# Altium footprint library in3ator_components.PcbLib: 40 footprints (part 1 of 3)
Each footprint in its own frame and in the unit in brackets; x right, y up, seen from the top. Pads: shape width x height; smd on the part's side, far side on the other; paste and mask are expansions set on the pad; w line width, h text height; cw(c..) or ccw(c..) is an arc to the next point about the centre after c.
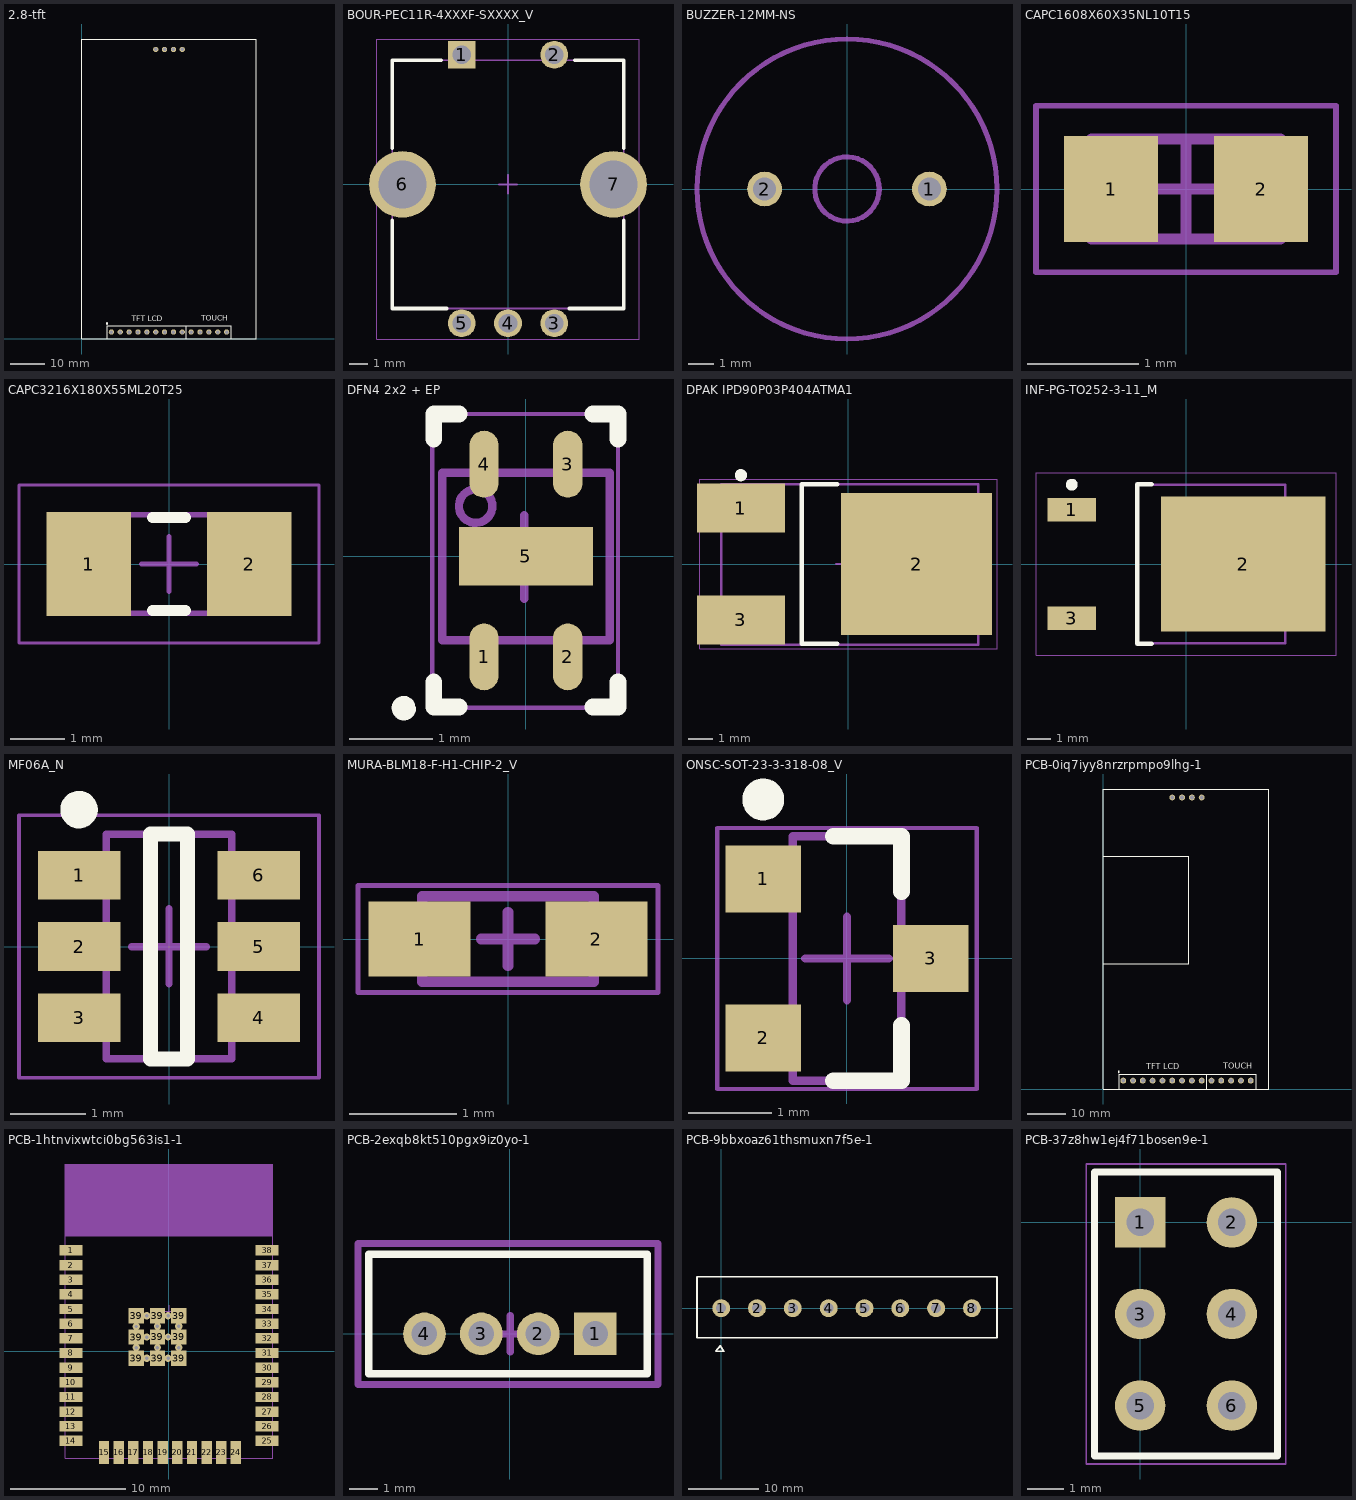
[diagram p0: the footprints below, top view; thin cyan lines are the x and y axes]

## 2.8-tft [mm]
pads (18):
  round 1.524 hole 1: 1(8.435,1.97) 2(10.975,1.97) 3(13.515,1.97) 4(16.055,1.97) 5(18.595,1.97) 6(21.135,1.97) 7(23.675,1.97) 8(26.215,1.97) 9(28.755,1.97) 10(21.135,82.97) 11(23.675,82.97) 12(26.215,82.97) 13(28.755,82.97) 14(31.295,1.97) 15(33.835,1.97) 16(36.375,1.97) 17(38.915,1.97) 18(41.455,1.97)
Top Overlay:
  circle w0.254: c7.165,4.445 r0.18
  lines w0.254: 3.175,0 38.534,0 ; 7.292,0 7.292,3.81 29.898,3.81 ; 41.201,0 42.725,0 42.725,3.81 37.772,3.81 30.152,3.81 29.898,3.81 ; 41.312,0 29.898,0 29.898,3.81 ; -0.055,-0.03 49.945,-0.03 49.945,85.97 -0.055,85.97 -0.055,-0.03
  text "TFT LCD" at 14.277,5.08 h1.52
  text "TOUCH" at 34.216,5.207 h1.52
3D body "TFT LCD 240x320 Assembly.step": height 8.53, standoff -5.78, extent -0.108,0.085 49.892,86.085

## BOUR-PEC11R-4XXXF-SXXXX_V [mm]
pads (7):
  rect 1.5x1.5 hole 1: 1(-2.5,7)
  round 1.5 hole 1: 2(2.5,7) 3(2.5,-7.5) 4(0,-7.5) 5(-2.5,-7.5)
  round 3.6 hole 2.6: 6(-5.7,0) 7(5.7,0)
Top Overlay:
  lines w0.2: -6.25,-1.95 -6.25,-6.7 -3.326,-6.7 ; -6.25,1.95 -6.25,6.7 -3.61,6.7 ; 3.326,-6.7 6.25,-6.7 6.25,-1.95 ; 3.61,6.7 6.25,6.7 6.25,1.95
Mechanical 13:
  lines w0.1: -6.25,-6.7 -6.25,6.7 6.25,6.7 6.25,-6.7 -6.25,-6.7
Mechanical 15:
  lines w0.05: -7.1,-8.35 -7.1,7.85 7.1,7.85 7.1,-8.35 -7.1,-8.35
  lines w0.1: -0.5,0 0.5,0 ; 0,-0.5 0,0.5
3D body "pec11r-4x15f-sxxxx.stp": height 21.61, standoff -3.59, extent -7,-7.7 7,7.2

## BUZZER-12MM-NS [mil]
pads (2):
  round 54 hole 36: 1(128,0) 2(-127.95,0)
Mechanical 16:
  circle w8: c0,0 r233
  circle w8: c0,0 r50
  text "+" at 105,45 h108.5
3D body: height 334.65, standoff 0, extent -232.98,-232.98 232.98,232.98

## CAPC1608X60X35NL10T15 [mm]
pads (2):
  rect 0.85x0.95 smd: 1(-0.675,0) 2(0.675,0)
Mechanical 13:
  lines w0.1: -0.85,-0.45 -0.85,0.45 0.85,0.45 0.85,-0.45 -0.85,-0.45
Mechanical 15:
  lines w0.05: -1.35,-0.75 -1.35,0.75 1.35,0.75 1.35,-0.75 -1.35,-0.75
  lines w0.1: -0.45,0 0.45,0 ; 0,-0.45 0,0.45
3D body: height 0.6, standoff 0, extent -0.5,-0.45 0.5,0.45
3D body: height 0.6, standoff 0, extent -0.85,-0.45 -0.5,0.45
3D body: height 0.6, standoff 0, extent 0.5,-0.45 0.85,0.45

## CAPC3216X180X55ML20T25 [mm]
pads (2):
  rect 1.55x1.9 smd: 1(-1.475,0) 2(1.475,0)
Top Overlay:
  lines w0.2: -0.3,-0.85 0.3,-0.85 ; -0.3,0.85 0.3,0.85
Mechanical 13:
  lines w0.1: -1.7,-0.9 1.7,-0.9 1.7,0.9 -1.7,0.9 -1.7,-0.9
Mechanical 15:
  lines w0.05: -2.75,-1.45 2.75,-1.45 2.75,1.45 -2.75,1.45 -2.75,-1.45
  lines w0.1: -0.5,0 0.5,0 ; 0,-0.5 0,0.5
3D body: height 1.8, standoff 0, extent 1.15,-0.9 1.7,0.9
3D body: height 1.8, standoff 0, extent -1.7,-0.9 -1.15,0.9
3D body: height 1.8, standoff 0, extent -1.15,-0.9 1.15,0.9

## DFN4 2x2 + EP [mm]
pads (5):
  oval 0.35x0.8 smd: 1(-0.5,-1.2) 2(0.5,-1.2) 3(0.5,1.1) 4(-0.5,1.1)
  rect 1.6x0.7 smd paste-0.15: 5(0,0)
Top Overlay:
  lines w0.15: -1.397,-1.778 ccw(c-1.458,-1.813) -1.388,-1.821
  lines w0.2: -1.1,-1.5 -1.1,-1.8 -0.8,-1.8 ; -1.1,1.4 -1.1,1.7 -0.8,1.7 ; 0.8,-1.8 1.1,-1.8 1.1,-1.5 ; 0.8,1.7 1.1,1.7 1.1,1.4
Mechanical 13:
  circle w0.1: c-0.6,0.6 r0.2
  lines w0.1: -1,-1 1,-1 1,1 -1,1 -1,-1
Mechanical 15:
  lines w0.05: -1.119,-1.808 1.1,-1.808 1.1,1.7 -1.119,1.7 -1.119,-1.808
  lines w0.1: -0.519,-0.008 0.481,-0.008 ; -0.019,-0.508 -0.019,0.492
3D body: height 1, standoff 0, extent -1.1,-1.8 1.1,1.7

## DPAK IPD90P03P404ATMA1 [mm]
pads (3):
  rect 3.6x2 smd: 1(-4.4,2.29) 3(-4.4,-2.29)
  rect 6.2x5.8 smd: 2(2.8,0)
Top Overlay:
  circle w0.25: c-4.4,3.64 r0.125
  lines w0.2: -0.453,-3.27 -1.905,-3.27 -1.905,3.27 -0.453,3.27
Mechanical 13:
  lines w0.1: -5.207,-3.302 5.334,-3.302 5.334,3.27 -5.207,3.27 -5.207,-3.302
Mechanical 15:
  lines w0.05: -6.096,-3.465 6.096,-3.465 6.096,3.465 -6.096,3.465 -6.096,-3.465
  lines w0.1: -0.5,0 0.5,0 ; 0,-0.5 0,0.5
3D body "User Library-DPAK-1.step": height 2.29, standoff -0.13, extent -4.572,-3.27 5.366,3.27

## INF-PG-TO252-3-11_M [mm]
pads (3):
  rect 2.05x1 smd: 1(-4.8,2.28) 3(-4.8,-2.28)
  rect 6.9x5.65 smd: 2(2.4,0)
Top Overlay:
  circle w0.25: c-4.8,3.33 r0.125
  lines w0.2: -1.45,-3.35 -2.05,-3.35 -2.05,3.35 -1.45,3.35
Mechanical 13:
  lines w0.1: -2.05,-3.325 4.17,-3.325 4.17,3.325 -2.05,3.325 -2.05,-3.325
Mechanical 15:
  lines w0.05: -6.3,-3.825 6.3,-3.825 6.3,3.825 -6.3,3.825 -6.3,-3.825
  lines w0.1: -0.5,0 0.5,0 ; 0,-0.5 0,0.5
3D body "User Library-DPAK_TO-252AA.step": height 2.37, standoff -0.03, extent -5.082,-3.367 5.018,3.367

## MF06A_N [mm]
pads (6):
  rect 1.1x0.65 smd: 1(-1.2,0.95) 2(-1.2,0) 3(-1.2,-0.95) 4(1.2,-0.95) 5(1.2,0) 6(1.2,0.95)
Top Overlay:
  circle w0.25: c-1.2,1.825 r0.125
  lines w0.2: -0.25,-1.5 -0.25,1.5 0.25,1.5 0.25,-1.5 -0.25,-1.5
Mechanical 13:
  lines w0.1: -0.835,-1.495 0.835,-1.495 0.835,1.495 -0.835,1.495 -0.835,-1.495
Mechanical 15:
  lines w0.05: -2,-1.75 2,-1.75 2,1.75 -2,1.75 -2,-1.75
  lines w0.1: -0.5,0 0.5,0 ; 0,-0.5 0,0.5
3D body: height 1.22, standoff 0.05, extent -0.835,-1.495 0.835,1.495

## MURA-BLM18-F-H1-CHIP-2_V [mm]
pads (2):
  rect 0.95x0.7 smd: 1(-0.825,0) 2(0.825,0)
Mechanical 6:
  text "Land Pattern Adapted for Flow Soldering" at -1,0.6 h0.05
Mechanical 13:
  lines w0.1: -0.8,-0.4 -0.8,0.4 0.8,0.4 0.8,-0.4 -0.8,-0.4
Mechanical 15:
  lines w0.05: -1.4,-0.5 1.4,-0.5 1.4,0.5 -1.4,0.5 -1.4,-0.5
  lines w0.1: -0.25,0 0.25,0 ; 0,-0.25 0,0.25
3D body: height 0.95, standoff 0, extent -0.8,-0.4 0.8,0.4

## ONSC-SOT-23-3-318-08_V [mm]
pads (3):
  rect 0.9x0.8 smd: 1(-1,0.95) 2(-1,-0.95) 3(1,0)
Top Overlay:
  circle w0.25: c-1,1.9 r0.125
  lines w0.2: -0.165,-1.46 0.65,-1.46 0.65,-0.8 ; -0.165,1.46 0.65,1.46 0.65,0.8
Mechanical 13:
  lines w0.1: -0.65,-1.46 0.65,-1.46 0.65,1.46 -0.65,1.46 -0.65,-1.46
Mechanical 15:
  lines w0.05: -1.55,-1.56 1.55,-1.56 1.55,1.56 -1.55,1.56 -1.55,-1.56
  lines w0.1: -0.5,0 0.5,0 ; 0,-0.5 0,0.5
3D body: height 1.11, standoff 0.01, extent -0.65,-1.46 0.65,1.46

## PCB-0iq7iyy8nrzrpmpo9lhg-1 [mil]
pads (18):
  round 60 hole 39.37: 1(202.09,85) 2(302.09,85) 3(402.09,85) 4(502.09,85) 5(602.09,85) 6(702.09,85) 7(802.09,85) 8(902.09,85) 9(1002.09,85) 10(702.09,2971.54) 11(802.09,2971.54) 12(902.09,2971.54) 13(1002.09,2971.54) 14(1102.09,85) 15(1202.09,85) 16(1302.09,85) 17(1402.09,85) 18(1502.09,85)
Top Overlay:
  circle w10: c157.09,175 r7.07
  lines w10: 0,0 1392.09,0 ; 0,5 0,3058.15 1684.37,3058.15 1684.37,0 1557.09,0 ; 0,1275 870,1275 870,2375 0,2375 ; 162.09,0 162.09,150 1052.09,150 ; 1497.09,0 1557.09,0 ; 1501.46,0 1052.09,0 1052.09,150 ; 1052.09,150 1062.09,150 1362.09,150 1557.09,150 1557.09,0
  text "TOUCH" at 1222.09,205 h60
  text "TFT LCD" at 437.09,200 h60
3D body "tft touchv2.stp": height 284.28, standoff -187.72, extent 5,0 1696,3045

## PCB-1htnvixwtci0bg563is1-1 [mm]
pads (47):
  rect 2x0.9 smd: 1(-8.5,8.755) 2(-8.5,7.485) 3(-8.5,6.215) 4(-8.5,4.945) 5(-8.5,3.675) 6(-8.5,2.405) 7(-8.5,1.135) 8(-8.5,-0.135) 9(-8.5,-1.405) 10(-8.5,-2.675) 11(-8.5,-3.945) 12(-8.5,-5.215) 13(-8.5,-6.485) 14(-8.5,-7.755) 25(8.5,-7.755) 26(8.5,-6.485) 27(8.5,-5.215) 28(8.5,-3.945) 29(8.5,-2.675) 30(8.5,-1.405) 31(8.5,-0.135) 32(8.5,1.135) 33(8.5,2.405) 34(8.5,3.675) 35(8.5,4.945) 36(8.5,6.215) 37(8.5,7.485) 38(8.5,8.755)
  rect 0.9x2 smd: 15(-5.63,-8.755) 16(-4.36,-8.755) 17(-3.1,-8.755) 18(-1.82,-8.755) 19(-0.55,-8.755) 20(0.72,-8.755) 21(1.99,-8.755) 22(3.26,-8.755) 23(4.53,-8.755) 24(5.8,-8.755)
  rect 1.33x1.33 smd: 39(-2.835,-0.58) 39(-2.835,1.245) 39(-2.835,3.09) 39(-1,1.255) 39(-1,3.09) 39(-1,-0.58) 39(0.835,-0.58) 39(0.835,1.255) 39(0.835,3.09)
via -1.917,3.09 diameter 0.635 hole 0.3
via -1,2.173 diameter 0.635 hole 0.3
via -0.082,3.09 diameter 0.635 hole 0.3
via -1.917,1.245 diameter 0.635 hole 0.3
via -0.082,1.255 diameter 0.635 hole 0.3
via -1.917,-0.58 diameter 0.635 hole 0.3
via -0.082,-0.58 diameter 0.635 hole 0.3
via 0.835,0.338 diameter 0.635 hole 0.3
via -1,0.338 diameter 0.635 hole 0.3
via -2.835,0.338 diameter 0.635 hole 0.3
via -2.835,2.163 diameter 0.635 hole 0.3
via 0.835,2.173 diameter 0.635 hole 0.3
Mechanical 1:
  rectangle: -9,9.945 9,16.245
Mechanical 15:
  lines w0.1: -0.5,3.495 0.5,3.495 ; 0,2.995 0,3.995
  lines w0.102: -9,-9.255 9,-9.255 9,16.245 -9,16.245 -9,-9.255
3D body "UNK_Espressif_Systems_ESP32-WROOM-32D_eec.STEP": height 3.2, standoff 0, extent -9,-9.25 9,16.25

## PCB-2exqb8kt510pgx9iz0yo-1 [mm]
pads (4):
  rect 1.5x1.5 hole 0.9: 1(3,0)
  round 1.5 hole 0.9: 2(1,0) 3(-1,0) 4(-3,0)
Top Overlay:
  lines w0.254: -4.953,-1.397 -4.953,2.794 4.826,2.794 4.826,-1.397 -4.953,-1.397
Mechanical 15:
  lines w0.254: -0.623,0 0.647,0 ; 0.012,-0.635 0.012,0.635 ; -5.334,-1.778 -5.334,3.175 5.207,3.175 5.207,-1.778 -5.334,-1.778
3D body "524180410.stp": height 4.3, standoff -2.5, extent -4.75,-1.27 4.75,2.73

## PCB-9bbxoaz61thsmuxn7f5e-1 [mm]
pads (8):
  round 2.54 hole 1.4: 1(0,0) 2(5.08,0) 3(10.16,0) 4(15.24,0) 5(20.32,0) 6(25.4,0) 7(30.48,0) 8(35.56,0)
Top Overlay:
  lines w0.254: -3.429,-4.191 39.116,-4.191 39.116,4.445 -3.429,4.445 -3.429,-4.191 ; -0.762,-6.096 -0.127,-5.334 0.381,-6.096 -0.762,-6.096
3D body "CUI_DEVICES_TBP01P1-508-08BE.step": height 30.5, standoff 12.5, extent -2.667,-4.205 37.973,10.795
3D body "CUI_DEVICES_TBP01R2-508-08BE.step": height 1.9, standoff -14.1, extent -3.34,-3.937 38.9,4.563

## PCB-37z8hw1ej4f71bosen9e-1 [mm]
pads (6):
  rect 1.4x1.4 hole 0.762: 1(0,0)
  round 1.4 hole 0.762: 2(2.54,0) 3(0,-2.54) 4(2.54,-2.54) 5(0,-5.08) 6(2.54,-5.08)
Top Overlay:
  lines w0.2: -1.27,-6.475 -1.27,1.395 3.81,1.395 3.81,-6.475 -1.27,-6.475
Mechanical 13:
  lines w0.1: -1.27,-6.475 3.81,-6.475 3.81,1.395 -1.27,1.395 -1.27,-6.475
Mechanical 15:
  lines w0.05: -1.495,-6.7 -1.495,1.62 4.035,1.62 4.035,-6.7 -1.495,-6.7
3D body "SLW-103-01-T-D.stp": height 4.57, standoff -2.92, extent -1.207,-6.35 3.747,1.27